# EAGLE library part LM324 (library OpenMotics)
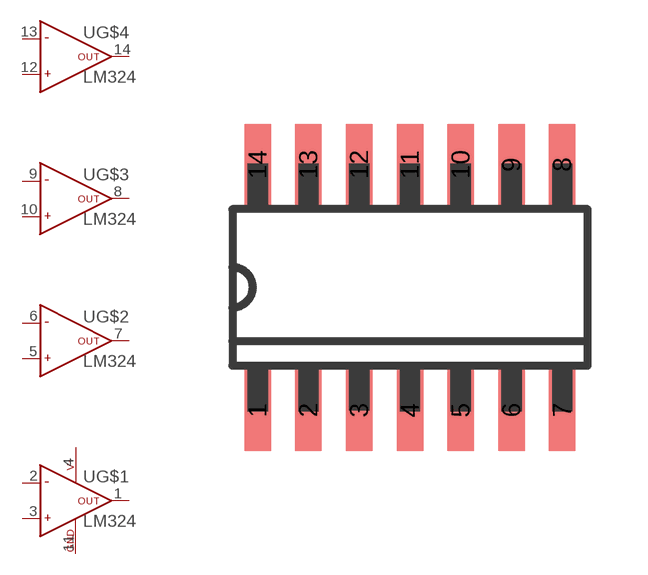
[diagram p13: symbol with the pads of SO14; footprint SO14]

Designator prefix U; gates G$1=OPAMP_WITH_POWER G$2=OPAMP G$3=OPAMP G$4=OPAMP

## LM324  [SO14]
1  G$1:OUT  out
2  G$1:-  in
3  G$1:+  in
4  G$1:V+  pwr
5  G$2:+  in
6  G$2:-  in
7  G$2:OUT  out
8  G$3:OUT  out
9  G$3:-  in
10  G$3:+  in
11  G$1:GND  pwr
12  G$4:+  in
13  G$4:-  in
14  G$4:OUT  out

## Footprint SO14 (pad centres in mm)
smd 0.66 x 2.032: 1 -3.81,-3.073; 2 -2.54,-3.073; 3 -1.27,-3.073; 4 0,-3.073; 5 1.27,-3.073; 6 2.54,-3.073; 7 3.81,-3.073; 8 3.81,3.073; 9 2.54,3.073; 10 1.27,3.073; 11 0,3.073; 12 -1.27,3.073; 13 -2.54,3.073; 14 -3.81,3.073